# Altium footprint library Res_Vishay_WSLP2726L5000FEA_eec_MFG.PcbLib: 1 footprints
Each footprint in its own frame and in the unit in brackets; x right, y up, seen from the top. Pads: shape width x height; smd on the part's side, far side on the other; paste and mask are expansions set on the pad; w line width, h text height; cw(c..) or ccw(c..) is an arc to the next point about the centre after c.
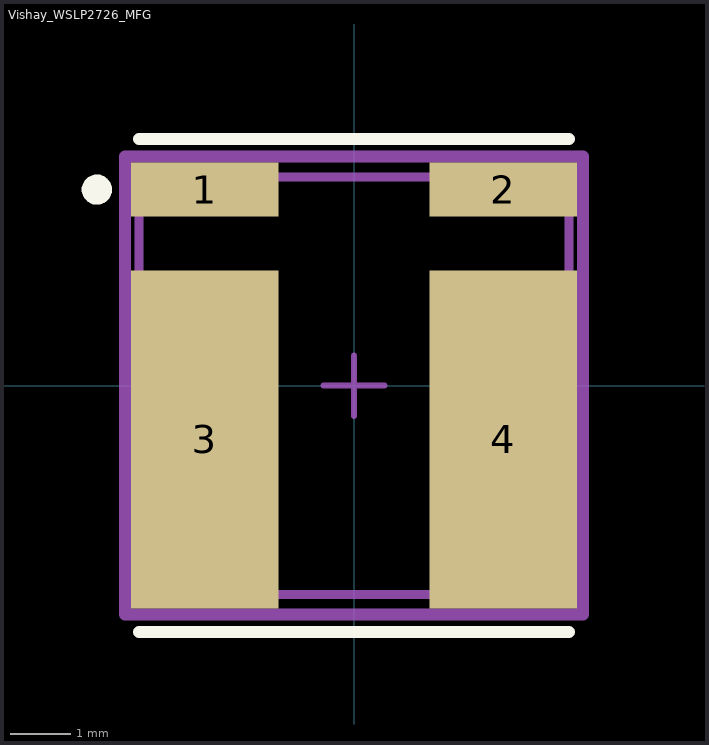
[diagram p0: the footprint, top view; thin cyan lines are the x and y axes]

## Vishay_WSLP2726_MFG [mil]
pads (4):
  rect 96x35 smd paste+0 mask+0: 1(-97,127.5) 2(97,127.5)
  rect 96x220 smd paste+0 mask+0: 3(-97,-35) 4(97,-35)
Top Overlay:
  circle w9.84: c-167.32,127.5 r4.92
  lines w7.87: -139.76,-160.43 139.76,-160.43 ; -139.76,160.43 139.76,160.43
Mechanical 10:
  lines w7.87: -148.94,-148.94 148.94,-148.94 148.94,148.94 -148.94,148.94 -148.94,-148.94
  text ".Designator" at 0,0 h39.37
Mechanical 12:
  lines w5.91: -139.76,-135.83 139.76,-135.83 139.76,135.83 -139.76,135.83 -139.76,-135.83
Mechanical 15:
  lines w3.94: -19.68,0 19.68,0 ; 0,-19.68 0,19.68
  lines w7.87: -148.94,-148.94 148.94,-148.94 148.94,148.94 -148.94,148.94 -148.94,-148.94
3D body "Res_Vishay_WSLP2726L5000FEA_eec.STEP": height 10, standoff 0, extent -148.94,-148.94 148.94,148.94